# Altium integrated library PLS_CONNLibPkg.IntLib: 6 symbols
Pins are listed as number, name and electrical type; pins without a type are passive.

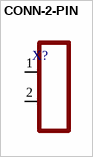
[diagram p0: symbol CONN-2-PIN]

## CONN-2-PIN
designator X?
footprint CONN-PLS-2-2.54mm
pins: 1, 2


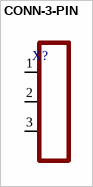
[diagram p1: symbol CONN-3-PIN]

## CONN-3-PIN
designator X?
footprint CONN-PLS-3-2.54mm
pins: 1, 2, 3


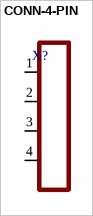
[diagram p2: symbol CONN-4-PIN]

## CONN-4-PIN
designator X?
footprint CONN-PLS-4-2.00mm
footprint CONN-PLS-4-2.54mm
pins: 1, 2, 3, 4


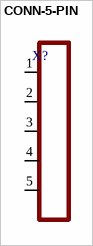
[diagram p3: symbol CONN-5-PIN]

## CONN-5-PIN
designator X?
footprint CONN-PLS-5-2.00mm
footprint CONN-PLS-5-2.54mm
pins: 1, 2, 3, 4, 5


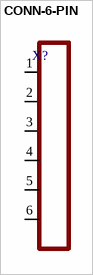
[diagram p4: symbol CONN-6-PIN]

## CONN-6-PIN
designator X?
pins: 1, 2, 3, 4, 5, 6


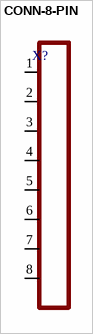
[diagram p5: symbol CONN-8-PIN]

## CONN-8-PIN
designator X?
pins: 1, 2, 3, 4, 5, 6, 7, 8